# Altium footprint library CAP 插接铝电解电容.PcbLib: 16 footprints
Each footprint in its own frame and in the unit in brackets; x right, y up, seen from the top. Pads: shape width x height; smd on the part's side, far side on the other; paste and mask are expansions set on the pad; w line width, h text height; cw(c..) or ccw(c..) is an arc to the next point about the centre after c.
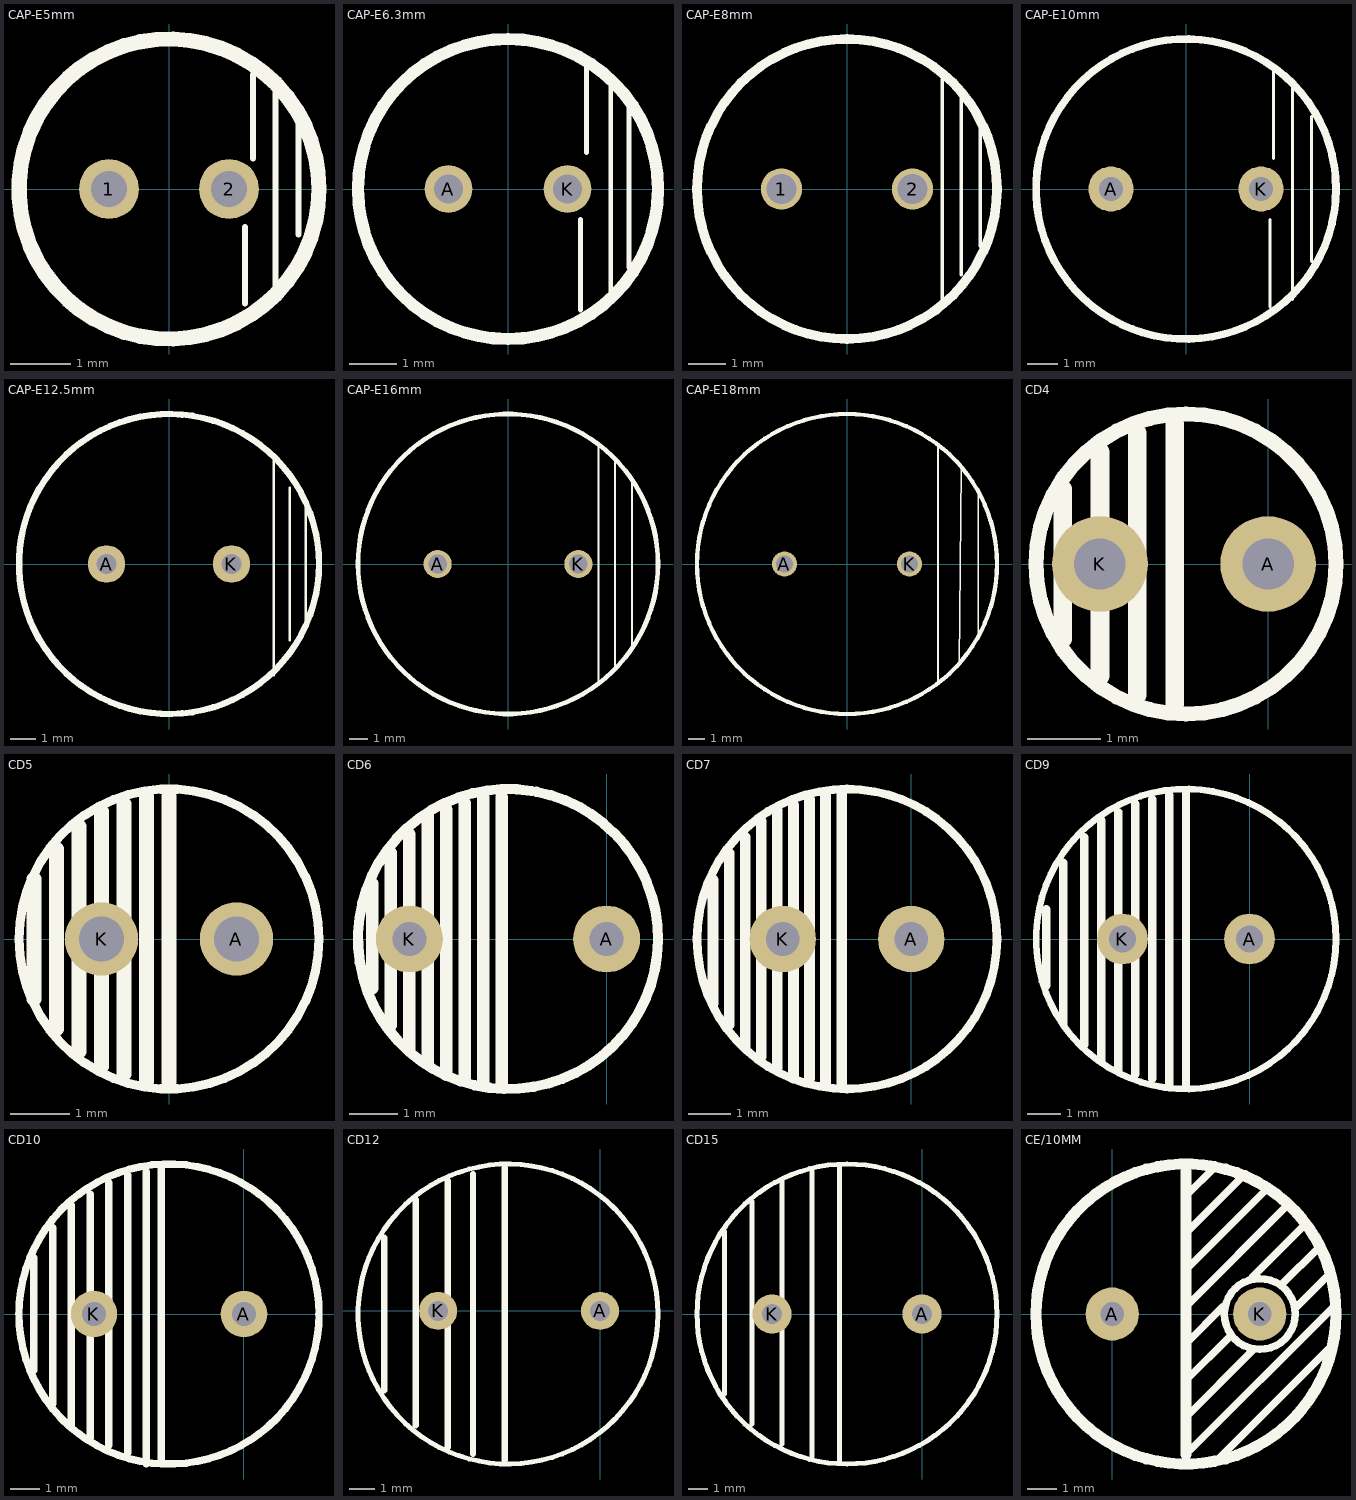
[diagram p0: the footprints below, top view; thin cyan lines are the x and y axes]

## CAP-E5mm [mm]
pads (2):
  round 1 hole 0.6: 1(-1,0) 2(1,0)
Top Overlay:
  circle w0.254: c0,0 r2.5
  lines w0.1: 1.27,-1.905 1.27,-0.635 ; 1.397,0.508 1.397,1.905 ; 1.778,1.524 1.778,-1.651 1.778,1.651 ; 2.159,-0.762 2.159,1.143

## CAP-E6.3mm [mm]
pads (2):
  round 1 hole 0.6: A(-1.25,0) K(1.25,0)
Top Overlay:
  circle w0.254: c0,0 r3.15
  lines w0.1: 1.524,-2.54 1.524,-0.635 ; 1.651,0.762 1.651,2.54 ; 2.159,-2.159 2.159,2.159 ; 2.54,-1.651 2.54,1.778

## CAP-E8mm [mm]
pads (2):
  round 1.1 hole 0.8: 1(-1.75,0) 2(1.75,0)
Top Overlay:
  circle w0.254: c0,0 r4
  lines w0.1: 2.413,-3.302 2.54,-3.175 2.54,2.921 ; 3.048,-2.286 3.048,2.413 ; 3.556,-1.524 3.556,1.651

## CAP-E10mm [mm]
pads (2):
  round 1.5 hole 0.8: A(-2.5,0) K(2.5,0)
Top Overlay:
  circle w0.254: c0,0 r5
  lines w0.1: 2.794,-3.937 2.794,-1.016 ; 2.921,1.016 2.921,3.937 ; 3.556,-3.683 3.556,3.429 ; 4.191,-2.413 4.191,2.413

## CAP-E12.5mm [mm]
pads (2):
  round 1.5 hole 0.8: A(-2.5,0) K(2.5,0)
Top Overlay:
  circle w0.254: c0,0 r6
  lines w0.1: 4.191,-4.445 4.191,4.191 ; 4.826,-3.048 4.826,3.048 ; 5.461,-2.286 5.461,2.286

## CAP-E16mm [mm]
pads (2):
  round 1.5 hole 1: A(-3.75,0) K(3.75,0)
Top Overlay:
  circle w0.254: c0,0 r8
  lines w0.1: 4.826,-6.35 4.826,6.477 ; 5.715,-5.588 5.715,5.461 ; 6.604,-4.445 6.604,4.318

## CAP-E18mm [mm]
pads (2):
  round 1.5 hole 1: A(-3.75,0) K(3.75,0)
Top Overlay:
  circle w0.254: c0,0 r9
  lines w0.1: 5.461,-6.985 5.461,7.112 ; 6.728,-5.969 6.854,5.715 ; 7.874,-4.445 7.874,4.318

## CD4 [mm]
pads (2):
  round 1.3 hole 0.7: A(0,0) K(-2.286,0)
Top Overlay:
  circle w0.203: c-1.116,0 r2.04
  lines w0.254: -2.794,-1.016 -2.794,1.016 ; -2.286,-1.524 -2.286,1.524 ; -1.778,-1.778 -1.778,1.778 ; -1.27,-1.905 -1.27,1.905

## CD5 [mm]
pads (2):
  round 1.24 hole 0.762: A(1.143,0) K(-1.143,0)
Top Overlay:
  circle w0.154: c0,0 r2.54
  lines w0.254: -2.286,-1.016 -2.286,1.016 ; -1.905,-1.524 -1.905,1.524 ; -1.524,-1.905 -1.524,1.905 ; -1.143,-2.159 -1.143,2.159 ; -0.762,-2.286 -0.762,2.286 ; -0.381,-2.413 -0.381,2.413 ; 0,-2.413 0,2.413

## CD6 [mm]
pads (2):
  round 1.38 hole 0.7: A(0,0) K(-4.064,0)
Top Overlay:
  lines w0.21: -1.549,3.052 ccw(c-2.032,0) -1.442,3.033
  lines w0.254: -4.826,-1.016 -4.826,1.143 ; -4.445,-1.778 -4.445,1.778 ; -4.064,-2.286 -4.064,2.159 ; -3.683,-2.54 -3.683,2.54 ; -3.302,-2.794 -3.302,2.667 ; -2.921,-2.921 -2.921,2.794 ; -2.54,-2.921 -2.54,2.921 ; -2.159,-3.048 -2.159,2.921

## CD7 [mil]
pads (2):
  round 62 hole 31.5: A(0,0) K(-120,0)
Top Overlay:
  circle w8: c-60,0 r140
  lines w10: -185,-60 -185,55 ; -170,-80 -170,80 ; -155,-100 -155,95 ; -140,-110 -140,110 ; -125,-120 -125,120 ; -110,-130 -110,125 ; -95,-130 -95,130 ; -80,-135 -80,135 ; -65,-135 -65,135

## CD9 [mil]
pads (2):
  round 60 hole 31.5: A(0,0) K(-150,0)
Top Overlay:
  circle w7.87: c-75,0 r177.16
  lines w10: -240,-55 -240,35 ; -220,-100 -220,90 ; -195,-125 -195,120 ; -175,-145 -175,140 ; -155,-155 -155,150 ; -135,-160 -135,160 ; -115,-165 -115,165 ; -95,-175 -95,170 ; -75,-175 -75,175

## CD10 [mil]
pads (2):
  round 62 hole 31.5: A(0,0) K(-200,0)
Top Overlay:
  circle w10: c-100,0 r200
  lines w10: -280,-75 -280,75 ; -255,-120 -255,115 ; -230,-150 -230,145 ; -205,-165 -205,160 ; -180,-175 -180,175 ; -155,-185 -155,185 ; -130,-200 -130,190 ; -110,-200 -110,195

## CD12 [mil]
pads (2):
  round 60 hole 31.5: A(0,0) K(-255,0)
Top Overlay:
  circle w7.87: c-145,-5 r236.22
  lines w10: -340,-125 -340,115 ; -290,-180 -290,175 ; -240,-215 -240,205 ; -200,-225 -200,215 ; -150,-235 -150,225

## CD15 [mm]
pads (2):
  round 2 hole 1: A(0,0) K(-7.62,0)
Top Overlay:
  circle w0.254: c-3.81,0 r7.62
  lines w0.254: -10.033,-4.064 -10.033,4.191 ; -8.636,-5.588 -8.636,5.715 ; -7.112,-6.604 -7.112,6.731 ; -5.588,-7.239 -5.588,7.239 ; -4.191,-7.493 -4.191,7.493

## CE/10MM [mm]
pads (2):
  round 1.8 hole 0.8: A(0,0) K(5,0)
Top Overlay:
  circle w0.381: c2.5,0 r5.08
  circle w0.254: c5,0 r1.2
  lines w0.254: 2.5,-4.75 7.5,0.25 ; 2.5,-3.5 4.75,-1.25 ; 2.5,-2.25 4,-0.75 ; 2.5,-1 3.75,0.25 ; 2.5,0.25 6,3.75 ; 2.5,1.5 5.25,4.25 ; 2.5,4 3.5,5 ; 2.625,2.875 4.5,4.75 ; 3.5,-5 7.5,-1 ; 4.75,1.25 6.5,3 ; 5.75,1 7,2.25 ; 6.25,0.25 7.25,1.25 ; 7.371,-1.589 7.4,-1.425
  lines w0.381: 2.5,-4.75 2.5,4.826
3D body "User Library-Cap electro 10x16x5_0mm.STEP": height 16.53, standoff -3.74, extent -2.551,-5 7.5,5.051